# Altium integrated library Xilinx Virtex-E.IntLib: 288 symbols (part 32 of 73)
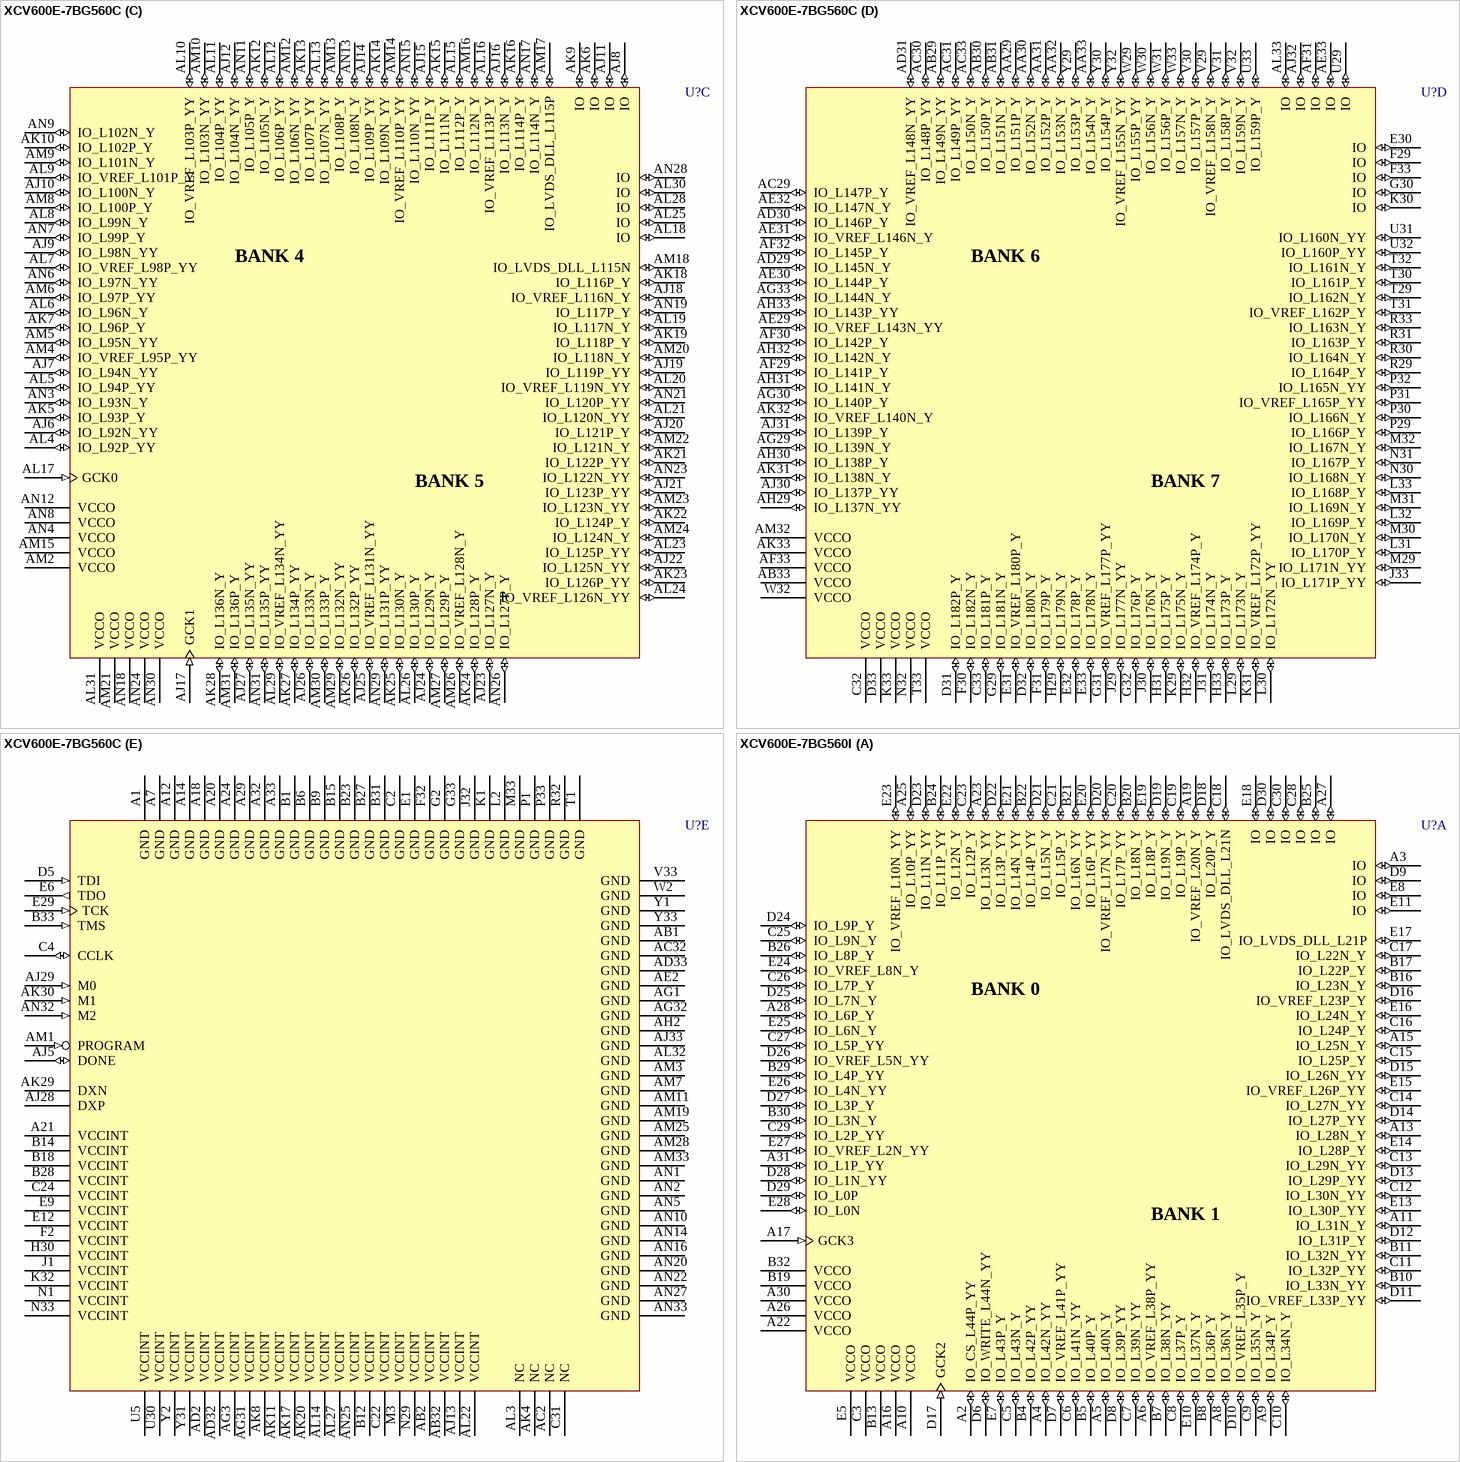
[diagram p423: symbols XCV600E-7BG560C to XCV600E-7BG560I]

## XCV600E-7BG560C
designator U?
Virtex-E 1.8V FPGA, 560-Ball BGA, Commercial Grade; PackageDocument: ver1.1, Apr-2001; Note: Solder pads are defined by the copper, i.e. non-soldermask defined (NSMD); Published: 19-Sep-2001; LatestRevisionDate: 17-Jul-2002; LatestRevisionNote: Re-released for DXP Platform.; DatasheetDocument: Mar-2003; PackageReference: BG560; Publisher: Altium Limited
footprint BG560 (560-Ball Metal Ball Grid Array (BG560))
3D model XCV600E-BG560 (560-Ball Metal Ball Grid Array (BG560))
signal-integrity model XCV600E_BG560 (Virtex-E)
part A pins: A2 IO_CS_L44P_YY (io), A3 IO (io), A4 IO_L42N_YY (io), A5 IO_L40N_Y (io), A6 IO_VREF_L38P_YY (io), A8 IO_L36N_Y (io), A9 IO_L34P_Y (io), A10 VCCO (power), A11 IO_L31N_Y (io), A13 IO_L28N_Y (io), A15 IO_L25N_Y (io), A16 VCCO (power), A17 GCK3 (in), A19 IO_VREF_L20N_Y (io), A22 VCCO (power), A23 IO_L13N_YY (io), A25 IO_L10P_YY (io), A26 VCCO (power), A27 IO (io), A28 IO_L6P_Y (io), A30 VCCO (power), A31 IO_L1P_YY (io), B4 IO_L42P_YY (io), B5 IO_L40P_Y (io), B7 IO_L38N_YY (io), B8 IO_L36P_Y (io), B10 IO_L33N_YY (io), B11 IO_L32N_YY (io), B13 VCCO (power), B16 IO_L23N_Y (io), B17 IO_L22P_Y (io), B19 VCCO (power), B20 IO_L18N_Y (io), B21 IO_L16N_YY (io), B22 IO_L14P_YY (io), B24 IO_L11P_YY (io), B25 IO (io), B26 IO_L8P_Y (io), B29 IO_L4P_YY (io), B30 IO_L3N_Y (io), B32 VCCO (power), C3 VCCO (power), C5 IO_L43N_Y (io), C6 IO_L41N_YY (io), C7 IO_L39N_YY (io), C8 IO_L37P_Y (io), C9 IO_L35N_Y (io), C10 IO_L34N_Y (io), C11 IO_L32P_YY (io), C12 IO_L30N_YY (io), C13 IO_L29N_YY (io), C14 IO_L27N_YY (io), C15 IO_L25P_Y (io), C16 IO_L24P_Y (io), C17 IO_L22N_Y (io), C18 IO_LVDS_DLL_L21N (io), C19 IO_L19P_Y (io), C20 IO_L17P_YY (io), C21 IO_L15P_Y (io), C23 IO_L12P_Y (io), C25 IO_L9N_Y (io), C26 IO_L7P_Y (io), C27 IO_L5P_YY (io), C28 IO (io), C29 IO_L2P_YY (io), C30 IO (io), D6 IO_WRITE_L44N_YY (io), D7 IO_VREF_L41P_YY (io), D8 IO_L39P_YY (io), D9 IO (io), D10 IO_VREF_L35P_Y (io), D11 IO_VREF_L33P_YY (io), D12 IO_L31P_Y (io), D13 IO_L29P_YY (io), D14 IO_L27P_YY (io), D15 IO_L26N_YY (io), D16 IO_VREF_L23P_Y (io), D17 GCK2 (in), D18 IO_L20P_Y (io), D19 IO_L19N_Y (io), D20 IO_VREF_L17N_YY (io), D21 IO_L15N_Y (io), D22 IO_L13P_YY (io), D23 IO_L11N_YY (io), D24 IO_L9P_Y (io), D25 IO_L7N_Y (io), D26 IO_VREF_L5N_YY (io), D27 IO_L3P_Y (io), D28 IO_L1N_YY (io), D29 IO_L0P (io), D30 IO (io), E5 VCCO (power), E7 IO_L43P_Y (io), E8 IO (io), E10 IO_L37N_Y (io), E11 IO (io), E13 IO_L30P_YY (io), E14 IO_L28P_Y (io), E15 IO_VREF_L26P_YY (io), E16 IO_L24N_Y (io), E17 IO_LVDS_DLL_L21P (io), E18 IO (io), E19 IO_L18P_Y (io), E20 IO_L16P_YY (io), E21 IO_L14N_YY (io), E22 IO_L12N_Y (io), E23 IO_VREF_L10N_YY (io), E24 IO_VREF_L8N_Y (io), E25 IO_L6N_Y (io), E26 IO_L4N_YY (io), E27 IO_VREF_L2N_YY (io), E28 IO_L0N (io)
part B pins: AA1 IO_L75P_Y (io), AA2 VCCO (power), AA3 IO_L76P_Y (io), AA4 IO_L76N_Y (io), AA5 IO_L77N_Y (io), AB3 IO_L77P_Y (io), AB4 IO_L78N_Y (io), AB5 IO_D5_L79N_YY (io), AC1 IO_L78P_Y (io), AC3 IO_L79P_YY (io), AC4 IO_D6_L80P_YY (io), AC5 IO_L81N_Y (io), AD1 VCCO (power), AD3 IO_VREF_L80N_YY (io), AD4 IO_L82P_Y (io), AD5 IO_L83N_Y (io), AE1 IO_L81P_Y (io), AE3 IO (io), AE4 IO_L84N_Y (io), AE5 IO_VREF_L85N_YY (io), AF1 IO_VREF_L82N_Y (io), AF2 IO_L83P_Y (io), AF3 IO (io), AF4 IO_L86P_Y (io), AF5 IO_L87N_Y (io), AG2 IO_L84P_Y (io), AG4 IO_L88P_Y (io), AG5 IO_L89N_Y (io), AH1 IO_L85P_YY (io), AH3 IO (io), AH4 IO_L90N_Y (io), AH5 IO_INIT_L91N_YY (io), AJ1 IO_L86N_Y (io), AJ2 IO_L87P_Y (io), AJ3 IO_L89P_Y (io), AJ4 IO_D7_L91P_YY (io), AK1 VCCO (power), AK2 IO_VREF_L88N_Y (io), AK3 IO (io), AL1 IO_L90P_Y (io), AL2 VCCO (power), B2 VCCO (power), B3 IO_L46N_Y (io), C1 IO_L47N_Y (io), D1 VCCO (power), D2 IO_L49P_Y (io), D3 IO (io), D4 IO_DOUT_BUSY_L45P_YY (io), E2 IO_L50N_Y (io), E3 IO_L48N_Y (io), E4 IO_DIN_D0_L45N_YY (io), F1 IO_L52N_Y (io), F3 IO (io), F4 IO_L47P_Y (io), F5 IO_L46P_Y (io), G1 IO (io), G3 IO_L51N_YY (io), G4 IO_L49N_Y (io), G5 IO_VREF_L48P_Y (io), H1 VCCO (power), H2 IO_L54N_Y (io), H3 IO_L53N_Y (io), H4 IO_VREF_L51P_YY (io), H5 IO_L50P_Y (io), J2 IO (io), J3 IO_L55P_Y (io), J4 IO_L53P_Y (io), J5 IO_L52P_Y (io), K2 IO_L57N_YY (io), K3 IO_D1_L56N_YY (io), K4 IO_L55N_Y (io), K5 IO_VREF_L54P_Y (io), L1 IO_L59P_Y (io), L3 IO_L58N_Y (io), L4 IO_D2_L57P_YY (io), L5 IO_VREF_L56P_YY (io), M1 VCCO (power), M2 IO_L60N_Y (io), M4 IO_L59N_Y (io), M5 IO_L58P_Y (io), N2 IO_L62P_Y (io), N3 IO_L61N_Y (io), N4 IO_L61P_Y (io), N5 IO_L60P_Y (io), P2 IO_L64P_Y (io), P3 IO_D3_L63N_YY (io), P4 IO_VREF_L63P_YY (io), P5 IO_L62N_Y (io), R1 IO_VREF_L66P_Y (io), R2 VCCO (power), R3 IO_L65N_Y (io), R4 IO_L65P_Y (io), R5 IO_L64N_Y (io), T2 IO_L68P_YY (io), T3 IO_L67N_Y (io), T4 IO_L66N_Y (io), T5 IO_L67P_Y (io), U1 IO_L69P_Y (io), U2 IO_L69N_Y (io), U3 IO_L68N_YY (io), U4 IO (io), V1 VCCO (power), V2 IO_L70P_Y (io), V3 IO_L71N_Y (io), V4 IO_VREF_L70N_Y (io), V5 IO_L71P_Y (io), W1 IO_L72P_Y (io), W3 IO_L72N_Y (io), W4 IO_D4_L73P_YY (io), W5 IO_VREF_L73N_YY (io), Y3 IO_L74P_Y (io), Y4 IO_L74N_Y (io), Y5 IO_L75N_Y (io)
part C pins: AJ6 IO_L92N_YY (io), AJ7 IO_L94N_YY (io), AJ8 IO (io), AJ9 IO_L98N_YY (io), AJ10 IO_L100N_Y (io), AJ11 IO (io), AJ12 IO_L104N_YY (io), AJ14 IO_L109P_YY (io), AJ15 IO_L111P_Y (io), AJ16 IO_L113N_Y (io), AJ17 GCK1 (in), AJ18 IO_VREF_L116N_Y (io), AJ19 IO_L119P_YY (io), AJ20 IO_L121P_Y (io), AJ21 IO_L123P_YY (io), AJ22 IO_L125N_YY (io), AJ23 IO_L127N_Y (io), AJ24 IO_L129N_Y (io), AJ25 IO_VREF_L131N_YY (io), AJ26 IO_L133N_Y (io), AJ27 IO_L135N_YY (io), AK5 IO_L93P_Y (io), AK6 IO (io), AK7 IO_L96P_Y (io), AK9 IO (io), AK10 IO_L102P_Y (io), AK12 IO_L105N_Y (io), AK13 IO_L107P_YY (io), AK14 IO_L109N_YY (io), AK15 IO_L111N_Y (io), AK16 IO_L114P_Y (io), AK18 IO_L116P_Y (io), AK19 IO_L118P_Y (io), AK21 IO_L122P_YY (io), AK22 IO_L124P_Y (io), AK23 IO_L126P_YY (io), AK24 IO_L128P_Y (io), AK25 IO_L130N_Y (io), AK26 IO_L132P_YY (io), AK27 IO_L134P_YY (io), AK28 IO_L136N_Y (io), AL4 IO_L92P_YY (io), AL5 IO_L94P_YY (io), AL6 IO_L96N_Y (io), AL7 IO_VREF_L98P_YY (io), AL8 IO_L99N_Y (io), AL9 IO_VREF_L101P_Y (io), AL10 IO_VREF_L103P_YY (io), AL11 IO_L104P_YY (io), AL12 IO_L106P_YY (io), AL13 IO_L107N_YY (io), AL15 IO_L112P_Y (io), AL16 IO_VREF_L113P_Y (io), AL17 GCK0 (in), AL18 IO (io), AL19 IO_L117N_Y (io), AL20 IO_VREF_L119N_YY (io), AL21 IO_L120N_YY (io), AL23 IO_L125P_YY (io), AL24 IO_VREF_L126N_YY (io), AL25 IO (io), AL26 IO_L130P_Y (io), AL28 IO (io), AL29 IO_VREF_L134N_YY (io), AL30 IO (io), AL31 VCCO (power), AM2 VCCO (power), AM4 IO_VREF_L95P_YY (io), AM5 IO_L95N_YY (io), AM6 IO_L97P_YY (io), AM8 IO_L100P_Y (io), AM9 IO_L101N_Y (io), AM10 IO_L103N_YY (io), AM12 IO_L106N_YY (io), AM13 IO_L108P_Y (io), AM14 IO_VREF_L110P_YY (io), AM15 VCCO (power), AM16 IO_L112N_Y (io), AM17 IO_LVDS_DLL_L115P (io), AM18 IO_LVDS_DLL_L115N (io), AM20 IO_L118N_Y (io), AM21 VCCO (power), AM22 IO_L121N_Y (io), AM23 IO_L123N_YY (io), AM24 IO_L124N_Y (io), AM26 IO_VREF_L128N_Y (io), AM27 IO_L129P_Y (io), AM29 IO_L132N_YY (io), AM30 IO_L133P_Y (io), AM31 IO_L136P_Y (io), AN3 IO_L93N_Y (io), AN4 VCCO (power), AN6 IO_L97N_YY (io), AN7 IO_L99P_Y (io), AN8 VCCO (power), AN9 IO_L102N_Y (io), AN11 IO_L105P_Y (io), AN12 VCCO (power), AN13 IO_L108N_Y (io), AN15 IO_L110N_YY (io), AN17 IO_L114N_Y (io), AN18 VCCO (power), AN19 IO_L117P_Y (io), AN21 IO_L120P_YY (io), AN23 IO_L122N_YY (io), AN24 VCCO (power), AN26 IO_L127P_Y (io), AN28 IO (io), AN29 IO_L131P_YY (io), AN30 VCCO (power), AN31 IO_L135P_YY (io)
part D pins: AA29 IO_L151P_Y (io), AA30 IO_L152N_Y (io), AA31 IO_L152P_Y (io), AA32 IO_L153N_Y (io), AA33 IO_L154N_Y (io), AB29 IO_L149N_YY (io), AB30 IO_L150P_Y (io), AB31 IO_L151N_Y (io), AB33 VCCO (power), AC29 IO_L147P_Y (io), AC30 IO_L148P_YY (io), AC31 IO_L149P_YY (io), AC33 IO_L150N_Y (io), AD29 IO_L145N_Y (io), AD30 IO_L146P_Y (io), AD31 IO_VREF_L148N_YY (io), AE29 IO_VREF_L143N_YY (io), AE30 IO_L144P_Y (io), AE31 IO_VREF_L146N_Y (io), AE32 IO_L147N_Y (io), AE33 IO (io), AF29 IO_L141P_Y (io), AF30 IO_L142P_Y (io), AF31 IO (io), AF32 IO_L145P_Y (io), AF33 VCCO (power), AG29 IO_L139N_Y (io), AG30 IO_L140P_Y (io), AG33 IO_L144N_Y (io), AH29 IO_L137N_YY (io), AH30 IO_L138P_Y (io), AH31 IO_L141N_Y (io), AH32 IO_L142N_Y (io), AH33 IO_L143P_YY (io), AJ30 IO_L137P_YY (io), AJ31 IO_L139P_Y (io), AJ32 IO (io), AK31 IO_L138N_Y (io), AK32 IO_VREF_L140N_Y (io), AK33 VCCO (power), AL33 IO (io), AM32 VCCO (power), C32 VCCO (power), C33 IO_L181P_Y (io), D31 IO_L182P_Y (io), D32 IO_L180N_Y (io), D33 VCCO (power), E30 IO (io), E31 IO_VREF_L180P_Y (io), E32 IO_L178P_Y (io), E33 IO_L178N_Y (io), F29 IO (io), F30 IO_L182N_Y (io), F31 IO_L179P_Y (io), F33 IO (io), G29 IO_L181N_Y (io), G30 IO (io), G31 IO_VREF_L177P_YY (io), G32 IO_L176P_Y (io), H29 IO_L179N_Y (io), H31 IO_L175P_Y (io), H32 IO_VREF_L174P_Y (io), H33 IO_L173P_Y (io), J29 IO_L177N_YY (io), J30 IO_L176N_Y (io), J31 IO_L174N_Y (io), J33 IO_L171P_YY (io), K29 IO_L175N_Y (io), K30 IO (io), K31 IO_VREF_L172P_YY (io), K33 VCCO (power), L29 IO_L173N_Y (io), L30 IO_L172N_YY (io), L31 IO_L170P_Y (io), L32 IO_L169P_Y (io), L33 IO_L168P_Y (io), M29 IO_L171N_YY (io), M30 IO_L170N_Y (io), M31 IO_L169N_Y (io), M32 IO_L167N_Y (io), N30 IO_L168N_Y (io), N31 IO_L167P_Y (io), N32 VCCO (power), P29 IO_L166P_Y (io), P30 IO_L166N_Y (io), P31 IO_VREF_L165P_YY (io), P32 IO_L165N_YY (io), R29 IO_L164P_Y (io), R30 IO_L164N_Y (io), R31 IO_L163P_Y (io), R33 IO_L163N_Y (io), T29 IO_L162N_Y (io), T30 IO_L161P_Y (io), T31 IO_VREF_L162P_Y (io), T32 IO_L161N_Y (io), T33 VCCO (power), U29 IO (io), U31 IO_L160N_YY (io), U32 IO_L160P_YY (io), U33 IO_L159P_Y (io), V29 IO_VREF_L158N_Y (io), V30 IO_L157P_Y (io), V31 IO_L158P_Y (io), V32 IO_L159N_Y (io), W29 IO_L155P_YY (io), W30 IO_L156N_Y (io), W31 IO_L156P_Y (io), W32 VCCO (power), W33 IO_L157N_Y (io), Y29 IO_L153P_Y (io), Y30 IO_L154P_Y (io), Y32 IO_VREF_L155N_YY (io)
part E pins: A1 GND (power), A7 GND (power), A12 GND (power), A14 GND (power), A18 GND (power), A20 GND (power), A21 VCCINT (power), A24 GND (power), A29 GND (power), A32 GND (power), A33 GND (power), AB1 GND (power), AB2 VCCINT (power), AB32 VCCINT (power), AC2 NC, AC32 GND (power), AD2 VCCINT (power), AD32 VCCINT (power), AD33 GND (power), AE2 GND (power), AG1 GND (power), AG3 VCCINT (power), AG31 VCCINT (power), AG32 GND (power), AH2 GND (power), AJ5 DONE (io), AJ13 VCCINT (power), AJ28 DXP, AJ29 M0 (in), AJ33 GND (power), AK4 NC, AK8 VCCINT (power), AK11 VCCINT (power), AK17 VCCINT (power), AK20 VCCINT (power), AK29 DXN, AK30 M1 (in), AL3 NC, AL14 VCCINT (power), AL22 VCCINT (power), AL27 VCCINT (power), AL32 GND (power), AM1 PROGRAM (in), AM3 GND (power), AM7 GND (power), AM11 GND (power), AM19 GND (power), AM25 GND (power), AM28 GND (power), AM33 GND (power), AN1 GND (power), AN2 GND (power), AN5 GND (power), AN10 GND (power), AN14 GND (power), AN16 GND (power), AN20 GND (power), AN22 GND (power), AN25 VCCINT (power), AN27 GND (power), AN32 M2 (in), AN33 GND (power), B1 GND (power), B6 GND (power), B9 GND (power), B12 VCCINT (power), B14 VCCINT (power), B15 GND (power), B18 VCCINT (power), B23 GND (power), B27 GND (power), B28 VCCINT (power), B31 GND (power), B33 TMS (in), C2 GND (power), C4 CCLK (io), C22 VCCINT (power), C24 VCCINT (power), C31 NC, D5 TDI (in), E1 GND (power), E6 TDO (out), E9 VCCINT (power), E12 VCCINT (power), E29 TCK (in), F2 VCCINT (power), F32 GND (power), G2 GND (power), G33 GND (power), H30 VCCINT (power), J1 VCCINT (power), J32 GND (power), K1 GND (power), K32 VCCINT (power), L2 GND (power), M3 VCCINT (power), M33 GND (power), N1 VCCINT (power), N29 VCCINT (power), N33 VCCINT (power), P1 GND (power), P33 GND (power), R32 GND (power), T1 GND (power), U5 VCCINT (power), U30 VCCINT (power), V33 GND (power), W2 GND (power), Y1 GND (power), Y2 VCCINT (power), Y31 VCCINT (power), Y33 GND (power)
part A text: BANK 0; BANK 1
part B text: BANK 2; BANK 3
part C text: BANK 4; BANK 5
part D text: BANK 6; BANK 7

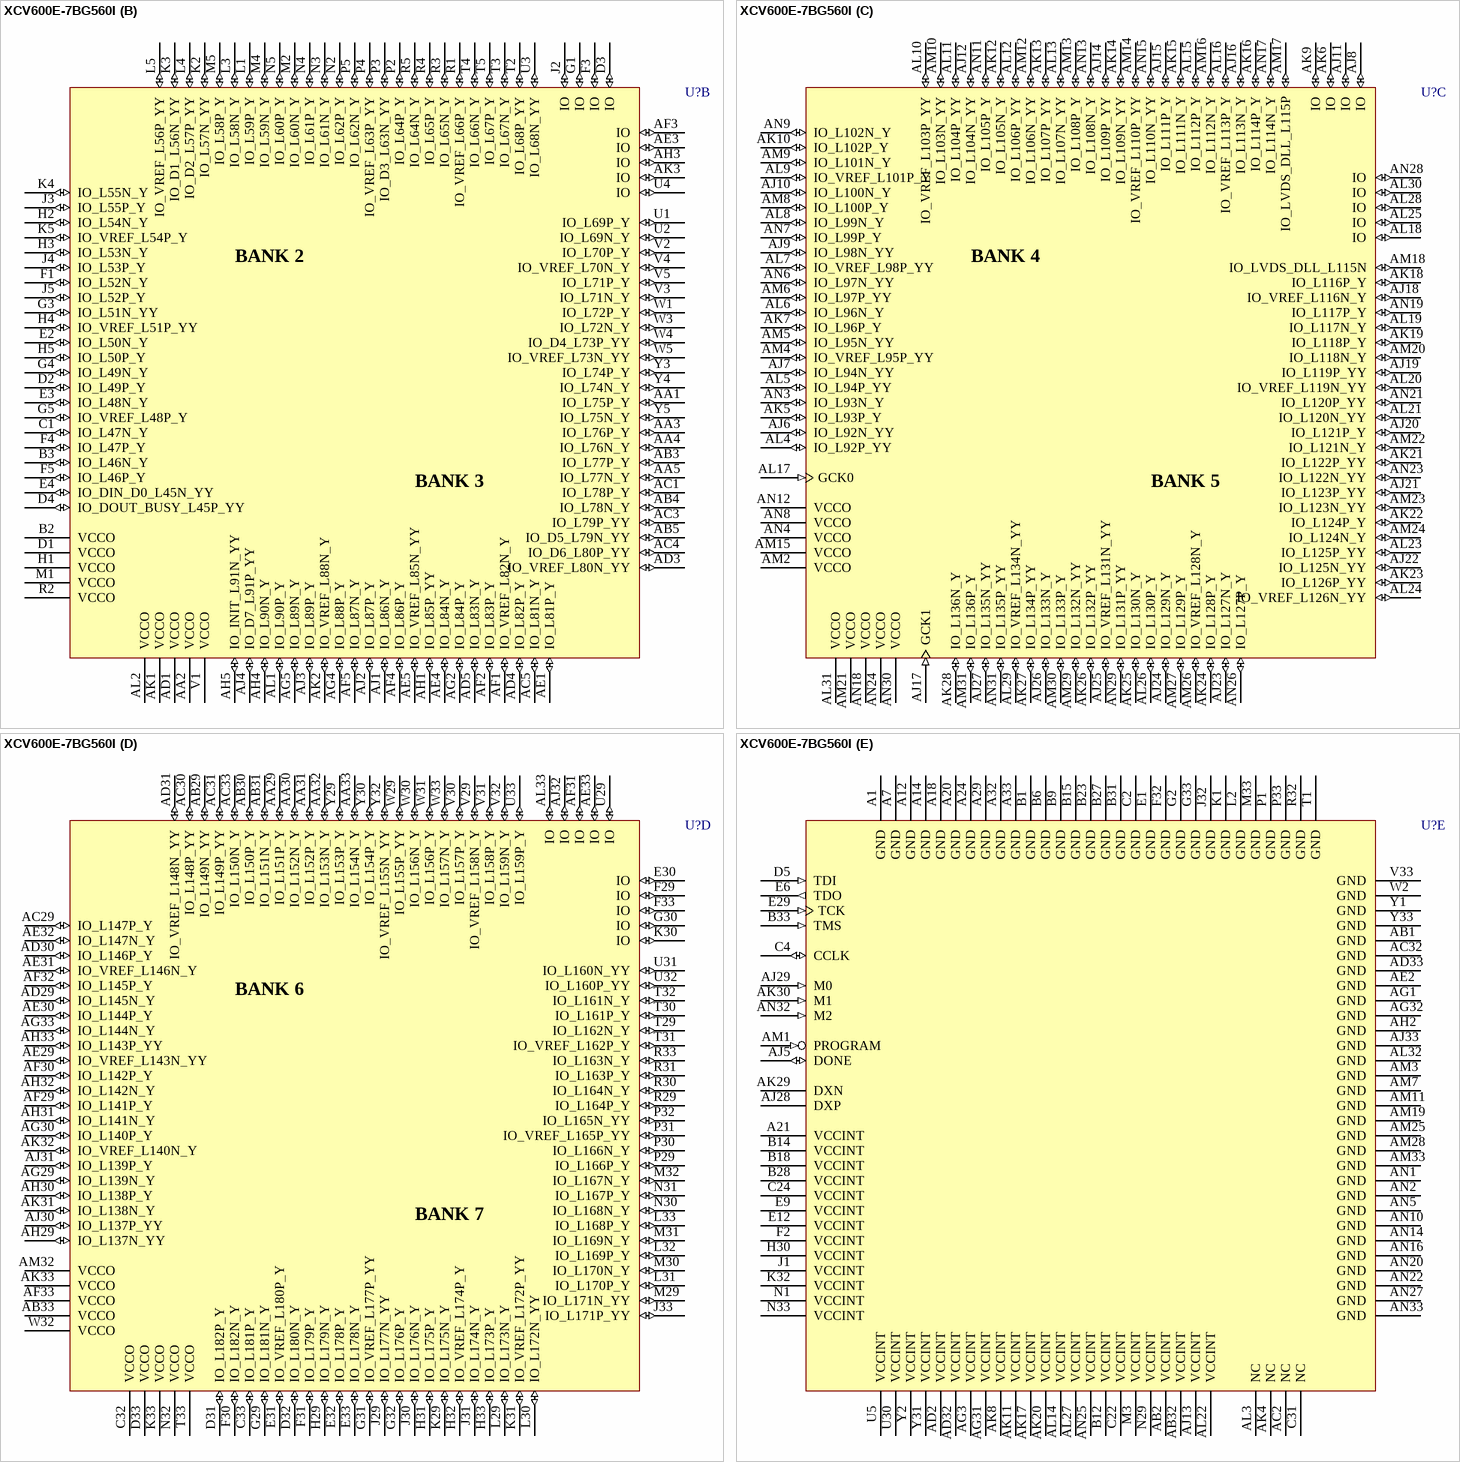
[diagram p226: symbol XCV600E-7BG560I]

## XCV600E-7BG560I
designator U?
Virtex-E 1.8V FPGA, 560-Ball BGA, Industrial Grade; PackageDocument: ver1.1, Apr-2001; Note: Solder pads are defined by the copper, i.e. non-soldermask defined (NSMD); Published: 19-Sep-2001; LatestRevisionDate: 17-Jul-2002; LatestRevisionNote: Re-released for DXP Platform.; DatasheetDocument: Mar-2003; PackageReference: BG560; Publisher: Altium Limited
footprint BG560 (560-Ball Metal Ball Grid Array (BG560))
3D model XCV600E-BG560 (560-Ball Metal Ball Grid Array (BG560))
signal-integrity model XCV600E_BG560 (Virtex-E)
part A pins: A2 IO_CS_L44P_YY (io), A3 IO (io), A4 IO_L42N_YY (io), A5 IO_L40N_Y (io), A6 IO_VREF_L38P_YY (io), A8 IO_L36N_Y (io), A9 IO_L34P_Y (io), A10 VCCO (power), A11 IO_L31N_Y (io), A13 IO_L28N_Y (io), A15 IO_L25N_Y (io), A16 VCCO (power), A17 GCK3 (in), A19 IO_VREF_L20N_Y (io), A22 VCCO (power), A23 IO_L13N_YY (io), A25 IO_L10P_YY (io), A26 VCCO (power), A27 IO (io), A28 IO_L6P_Y (io), A30 VCCO (power), A31 IO_L1P_YY (io), B4 IO_L42P_YY (io), B5 IO_L40P_Y (io), B7 IO_L38N_YY (io), B8 IO_L36P_Y (io), B10 IO_L33N_YY (io), B11 IO_L32N_YY (io), B13 VCCO (power), B16 IO_L23N_Y (io), B17 IO_L22P_Y (io), B19 VCCO (power), B20 IO_L18N_Y (io), B21 IO_L16N_YY (io), B22 IO_L14P_YY (io), B24 IO_L11P_YY (io), B25 IO (io), B26 IO_L8P_Y (io), B29 IO_L4P_YY (io), B30 IO_L3N_Y (io), B32 VCCO (power), C3 VCCO (power), C5 IO_L43N_Y (io), C6 IO_L41N_YY (io), C7 IO_L39N_YY (io), C8 IO_L37P_Y (io), C9 IO_L35N_Y (io), C10 IO_L34N_Y (io), C11 IO_L32P_YY (io), C12 IO_L30N_YY (io), C13 IO_L29N_YY (io), C14 IO_L27N_YY (io), C15 IO_L25P_Y (io), C16 IO_L24P_Y (io), C17 IO_L22N_Y (io), C18 IO_LVDS_DLL_L21N (io), C19 IO_L19P_Y (io), C20 IO_L17P_YY (io), C21 IO_L15P_Y (io), C23 IO_L12P_Y (io), C25 IO_L9N_Y (io), C26 IO_L7P_Y (io), C27 IO_L5P_YY (io), C28 IO (io), C29 IO_L2P_YY (io), C30 IO (io), D6 IO_WRITE_L44N_YY (io), D7 IO_VREF_L41P_YY (io), D8 IO_L39P_YY (io), D9 IO (io), D10 IO_VREF_L35P_Y (io), D11 IO_VREF_L33P_YY (io), D12 IO_L31P_Y (io), D13 IO_L29P_YY (io), D14 IO_L27P_YY (io), D15 IO_L26N_YY (io), D16 IO_VREF_L23P_Y (io), D17 GCK2 (in), D18 IO_L20P_Y (io), D19 IO_L19N_Y (io), D20 IO_VREF_L17N_YY (io), D21 IO_L15N_Y (io), D22 IO_L13P_YY (io), D23 IO_L11N_YY (io), D24 IO_L9P_Y (io), D25 IO_L7N_Y (io), D26 IO_VREF_L5N_YY (io), D27 IO_L3P_Y (io), D28 IO_L1N_YY (io), D29 IO_L0P (io), D30 IO (io), E5 VCCO (power), E7 IO_L43P_Y (io), E8 IO (io), E10 IO_L37N_Y (io), E11 IO (io), E13 IO_L30P_YY (io), E14 IO_L28P_Y (io), E15 IO_VREF_L26P_YY (io), E16 IO_L24N_Y (io), E17 IO_LVDS_DLL_L21P (io), E18 IO (io), E19 IO_L18P_Y (io), E20 IO_L16P_YY (io), E21 IO_L14N_YY (io), E22 IO_L12N_Y (io), E23 IO_VREF_L10N_YY (io), E24 IO_VREF_L8N_Y (io), E25 IO_L6N_Y (io), E26 IO_L4N_YY (io), E27 IO_VREF_L2N_YY (io), E28 IO_L0N (io)
part B pins: AA1 IO_L75P_Y (io), AA2 VCCO (power), AA3 IO_L76P_Y (io), AA4 IO_L76N_Y (io), AA5 IO_L77N_Y (io), AB3 IO_L77P_Y (io), AB4 IO_L78N_Y (io), AB5 IO_D5_L79N_YY (io), AC1 IO_L78P_Y (io), AC3 IO_L79P_YY (io), AC4 IO_D6_L80P_YY (io), AC5 IO_L81N_Y (io), AD1 VCCO (power), AD3 IO_VREF_L80N_YY (io), AD4 IO_L82P_Y (io), AD5 IO_L83N_Y (io), AE1 IO_L81P_Y (io), AE3 IO (io), AE4 IO_L84N_Y (io), AE5 IO_VREF_L85N_YY (io), AF1 IO_VREF_L82N_Y (io), AF2 IO_L83P_Y (io), AF3 IO (io), AF4 IO_L86P_Y (io), AF5 IO_L87N_Y (io), AG2 IO_L84P_Y (io), AG4 IO_L88P_Y (io), AG5 IO_L89N_Y (io), AH1 IO_L85P_YY (io), AH3 IO (io), AH4 IO_L90N_Y (io), AH5 IO_INIT_L91N_YY (io), AJ1 IO_L86N_Y (io), AJ2 IO_L87P_Y (io), AJ3 IO_L89P_Y (io), AJ4 IO_D7_L91P_YY (io), AK1 VCCO (power), AK2 IO_VREF_L88N_Y (io), AK3 IO (io), AL1 IO_L90P_Y (io), AL2 VCCO (power), B2 VCCO (power), B3 IO_L46N_Y (io), C1 IO_L47N_Y (io), D1 VCCO (power), D2 IO_L49P_Y (io), D3 IO (io), D4 IO_DOUT_BUSY_L45P_YY (io), E2 IO_L50N_Y (io), E3 IO_L48N_Y (io), E4 IO_DIN_D0_L45N_YY (io), F1 IO_L52N_Y (io), F3 IO (io), F4 IO_L47P_Y (io), F5 IO_L46P_Y (io), G1 IO (io), G3 IO_L51N_YY (io), G4 IO_L49N_Y (io), G5 IO_VREF_L48P_Y (io), H1 VCCO (power), H2 IO_L54N_Y (io), H3 IO_L53N_Y (io), H4 IO_VREF_L51P_YY (io), H5 IO_L50P_Y (io), J2 IO (io), J3 IO_L55P_Y (io), J4 IO_L53P_Y (io), J5 IO_L52P_Y (io), K2 IO_L57N_YY (io), K3 IO_D1_L56N_YY (io), K4 IO_L55N_Y (io), K5 IO_VREF_L54P_Y (io), L1 IO_L59P_Y (io), L3 IO_L58N_Y (io), L4 IO_D2_L57P_YY (io), L5 IO_VREF_L56P_YY (io), M1 VCCO (power), M2 IO_L60N_Y (io), M4 IO_L59N_Y (io), M5 IO_L58P_Y (io), N2 IO_L62P_Y (io), N3 IO_L61N_Y (io), N4 IO_L61P_Y (io), N5 IO_L60P_Y (io), P2 IO_L64P_Y (io), P3 IO_D3_L63N_YY (io), P4 IO_VREF_L63P_YY (io), P5 IO_L62N_Y (io), R1 IO_VREF_L66P_Y (io), R2 VCCO (power), R3 IO_L65N_Y (io), R4 IO_L65P_Y (io), R5 IO_L64N_Y (io), T2 IO_L68P_YY (io), T3 IO_L67N_Y (io), T4 IO_L66N_Y (io), T5 IO_L67P_Y (io), U1 IO_L69P_Y (io), U2 IO_L69N_Y (io), U3 IO_L68N_YY (io), U4 IO (io), V1 VCCO (power), V2 IO_L70P_Y (io), V3 IO_L71N_Y (io), V4 IO_VREF_L70N_Y (io), V5 IO_L71P_Y (io), W1 IO_L72P_Y (io), W3 IO_L72N_Y (io), W4 IO_D4_L73P_YY (io), W5 IO_VREF_L73N_YY (io), Y3 IO_L74P_Y (io), Y4 IO_L74N_Y (io), Y5 IO_L75N_Y (io)
part C pins: AJ6 IO_L92N_YY (io), AJ7 IO_L94N_YY (io), AJ8 IO (io), AJ9 IO_L98N_YY (io), AJ10 IO_L100N_Y (io), AJ11 IO (io), AJ12 IO_L104N_YY (io), AJ14 IO_L109P_YY (io), AJ15 IO_L111P_Y (io), AJ16 IO_L113N_Y (io), AJ17 GCK1 (in), AJ18 IO_VREF_L116N_Y (io), AJ19 IO_L119P_YY (io), AJ20 IO_L121P_Y (io), AJ21 IO_L123P_YY (io), AJ22 IO_L125N_YY (io), AJ23 IO_L127N_Y (io), AJ24 IO_L129N_Y (io), AJ25 IO_VREF_L131N_YY (io), AJ26 IO_L133N_Y (io), AJ27 IO_L135N_YY (io), AK5 IO_L93P_Y (io), AK6 IO (io), AK7 IO_L96P_Y (io), AK9 IO (io), AK10 IO_L102P_Y (io), AK12 IO_L105N_Y (io), AK13 IO_L107P_YY (io), AK14 IO_L109N_YY (io), AK15 IO_L111N_Y (io), AK16 IO_L114P_Y (io), AK18 IO_L116P_Y (io), AK19 IO_L118P_Y (io), AK21 IO_L122P_YY (io), AK22 IO_L124P_Y (io), AK23 IO_L126P_YY (io), AK24 IO_L128P_Y (io), AK25 IO_L130N_Y (io), AK26 IO_L132P_YY (io), AK27 IO_L134P_YY (io), AK28 IO_L136N_Y (io), AL4 IO_L92P_YY (io), AL5 IO_L94P_YY (io), AL6 IO_L96N_Y (io), AL7 IO_VREF_L98P_YY (io), AL8 IO_L99N_Y (io), AL9 IO_VREF_L101P_Y (io), AL10 IO_VREF_L103P_YY (io), AL11 IO_L104P_YY (io), AL12 IO_L106P_YY (io), AL13 IO_L107N_YY (io), AL15 IO_L112P_Y (io), AL16 IO_VREF_L113P_Y (io), AL17 GCK0 (in), AL18 IO (io), AL19 IO_L117N_Y (io), AL20 IO_VREF_L119N_YY (io), AL21 IO_L120N_YY (io), AL23 IO_L125P_YY (io), AL24 IO_VREF_L126N_YY (io), AL25 IO (io), AL26 IO_L130P_Y (io), AL28 IO (io), AL29 IO_VREF_L134N_YY (io), AL30 IO (io), AL31 VCCO (power), AM2 VCCO (power), AM4 IO_VREF_L95P_YY (io), AM5 IO_L95N_YY (io), AM6 IO_L97P_YY (io), AM8 IO_L100P_Y (io), AM9 IO_L101N_Y (io), AM10 IO_L103N_YY (io), AM12 IO_L106N_YY (io), AM13 IO_L108P_Y (io), AM14 IO_VREF_L110P_YY (io), AM15 VCCO (power), AM16 IO_L112N_Y (io), AM17 IO_LVDS_DLL_L115P (io), AM18 IO_LVDS_DLL_L115N (io), AM20 IO_L118N_Y (io), AM21 VCCO (power), AM22 IO_L121N_Y (io), AM23 IO_L123N_YY (io), AM24 IO_L124N_Y (io), AM26 IO_VREF_L128N_Y (io), AM27 IO_L129P_Y (io), AM29 IO_L132N_YY (io), AM30 IO_L133P_Y (io), AM31 IO_L136P_Y (io), AN3 IO_L93N_Y (io), AN4 VCCO (power), AN6 IO_L97N_YY (io), AN7 IO_L99P_Y (io), AN8 VCCO (power), AN9 IO_L102N_Y (io), AN11 IO_L105P_Y (io), AN12 VCCO (power), AN13 IO_L108N_Y (io), AN15 IO_L110N_YY (io), AN17 IO_L114N_Y (io), AN18 VCCO (power), AN19 IO_L117P_Y (io), AN21 IO_L120P_YY (io), AN23 IO_L122N_YY (io), AN24 VCCO (power), AN26 IO_L127P_Y (io), AN28 IO (io), AN29 IO_L131P_YY (io), AN30 VCCO (power), AN31 IO_L135P_YY (io)
part D pins: AA29 IO_L151P_Y (io), AA30 IO_L152N_Y (io), AA31 IO_L152P_Y (io), AA32 IO_L153N_Y (io), AA33 IO_L154N_Y (io), AB29 IO_L149N_YY (io), AB30 IO_L150P_Y (io), AB31 IO_L151N_Y (io), AB33 VCCO (power), AC29 IO_L147P_Y (io), AC30 IO_L148P_YY (io), AC31 IO_L149P_YY (io), AC33 IO_L150N_Y (io), AD29 IO_L145N_Y (io), AD30 IO_L146P_Y (io), AD31 IO_VREF_L148N_YY (io), AE29 IO_VREF_L143N_YY (io), AE30 IO_L144P_Y (io), AE31 IO_VREF_L146N_Y (io), AE32 IO_L147N_Y (io), AE33 IO (io), AF29 IO_L141P_Y (io), AF30 IO_L142P_Y (io), AF31 IO (io), AF32 IO_L145P_Y (io), AF33 VCCO (power), AG29 IO_L139N_Y (io), AG30 IO_L140P_Y (io), AG33 IO_L144N_Y (io), AH29 IO_L137N_YY (io), AH30 IO_L138P_Y (io), AH31 IO_L141N_Y (io), AH32 IO_L142N_Y (io), AH33 IO_L143P_YY (io), AJ30 IO_L137P_YY (io), AJ31 IO_L139P_Y (io), AJ32 IO (io), AK31 IO_L138N_Y (io), AK32 IO_VREF_L140N_Y (io), AK33 VCCO (power), AL33 IO (io), AM32 VCCO (power), C32 VCCO (power), C33 IO_L181P_Y (io), D31 IO_L182P_Y (io), D32 IO_L180N_Y (io), D33 VCCO (power), E30 IO (io), E31 IO_VREF_L180P_Y (io), E32 IO_L178P_Y (io), E33 IO_L178N_Y (io), F29 IO (io), F30 IO_L182N_Y (io), F31 IO_L179P_Y (io), F33 IO (io), G29 IO_L181N_Y (io), G30 IO (io), G31 IO_VREF_L177P_YY (io), G32 IO_L176P_Y (io), H29 IO_L179N_Y (io), H31 IO_L175P_Y (io), H32 IO_VREF_L174P_Y (io), H33 IO_L173P_Y (io), J29 IO_L177N_YY (io), J30 IO_L176N_Y (io), J31 IO_L174N_Y (io), J33 IO_L171P_YY (io), K29 IO_L175N_Y (io), K30 IO (io), K31 IO_VREF_L172P_YY (io), K33 VCCO (power), L29 IO_L173N_Y (io), L30 IO_L172N_YY (io), L31 IO_L170P_Y (io), L32 IO_L169P_Y (io), L33 IO_L168P_Y (io), M29 IO_L171N_YY (io), M30 IO_L170N_Y (io), M31 IO_L169N_Y (io), M32 IO_L167N_Y (io), N30 IO_L168N_Y (io), N31 IO_L167P_Y (io), N32 VCCO (power), P29 IO_L166P_Y (io), P30 IO_L166N_Y (io), P31 IO_VREF_L165P_YY (io), P32 IO_L165N_YY (io), R29 IO_L164P_Y (io), R30 IO_L164N_Y (io), R31 IO_L163P_Y (io), R33 IO_L163N_Y (io), T29 IO_L162N_Y (io), T30 IO_L161P_Y (io), T31 IO_VREF_L162P_Y (io), T32 IO_L161N_Y (io), T33 VCCO (power), U29 IO (io), U31 IO_L160N_YY (io), U32 IO_L160P_YY (io), U33 IO_L159P_Y (io), V29 IO_VREF_L158N_Y (io), V30 IO_L157P_Y (io), V31 IO_L158P_Y (io), V32 IO_L159N_Y (io), W29 IO_L155P_YY (io), W30 IO_L156N_Y (io), W31 IO_L156P_Y (io), W32 VCCO (power), W33 IO_L157N_Y (io), Y29 IO_L153P_Y (io), Y30 IO_L154P_Y (io), Y32 IO_VREF_L155N_YY (io)
part E pins: A1 GND (power), A7 GND (power), A12 GND (power), A14 GND (power), A18 GND (power), A20 GND (power), A21 VCCINT (power), A24 GND (power), A29 GND (power), A32 GND (power), A33 GND (power), AB1 GND (power), AB2 VCCINT (power), AB32 VCCINT (power), AC2 NC, AC32 GND (power), AD2 VCCINT (power), AD32 VCCINT (power), AD33 GND (power), AE2 GND (power), AG1 GND (power), AG3 VCCINT (power), AG31 VCCINT (power), AG32 GND (power), AH2 GND (power), AJ5 DONE (io), AJ13 VCCINT (power), AJ28 DXP, AJ29 M0 (in), AJ33 GND (power), AK4 NC, AK8 VCCINT (power), AK11 VCCINT (power), AK17 VCCINT (power), AK20 VCCINT (power), AK29 DXN, AK30 M1 (in), AL3 NC, AL14 VCCINT (power), AL22 VCCINT (power), AL27 VCCINT (power), AL32 GND (power), AM1 PROGRAM (in), AM3 GND (power), AM7 GND (power), AM11 GND (power), AM19 GND (power), AM25 GND (power), AM28 GND (power), AM33 GND (power), AN1 GND (power), AN2 GND (power), AN5 GND (power), AN10 GND (power), AN14 GND (power), AN16 GND (power), AN20 GND (power), AN22 GND (power), AN25 VCCINT (power), AN27 GND (power), AN32 M2 (in), AN33 GND (power), B1 GND (power), B6 GND (power), B9 GND (power), B12 VCCINT (power), B14 VCCINT (power), B15 GND (power), B18 VCCINT (power), B23 GND (power), B27 GND (power), B28 VCCINT (power), B31 GND (power), B33 TMS (in), C2 GND (power), C4 CCLK (io), C22 VCCINT (power), C24 VCCINT (power), C31 NC, D5 TDI (in), E1 GND (power), E6 TDO (out), E9 VCCINT (power), E12 VCCINT (power), E29 TCK (in), F2 VCCINT (power), F32 GND (power), G2 GND (power), G33 GND (power), H30 VCCINT (power), J1 VCCINT (power), J32 GND (power), K1 GND (power), K32 VCCINT (power), L2 GND (power), M3 VCCINT (power), M33 GND (power), N1 VCCINT (power), N29 VCCINT (power), N33 VCCINT (power), P1 GND (power), P33 GND (power), R32 GND (power), T1 GND (power), U5 VCCINT (power), U30 VCCINT (power), V33 GND (power), W2 GND (power), Y1 GND (power), Y2 VCCINT (power), Y31 VCCINT (power), Y33 GND (power)
part A text: BANK 0; BANK 1
part B text: BANK 2; BANK 3
part C text: BANK 4; BANK 5
part D text: BANK 6; BANK 7

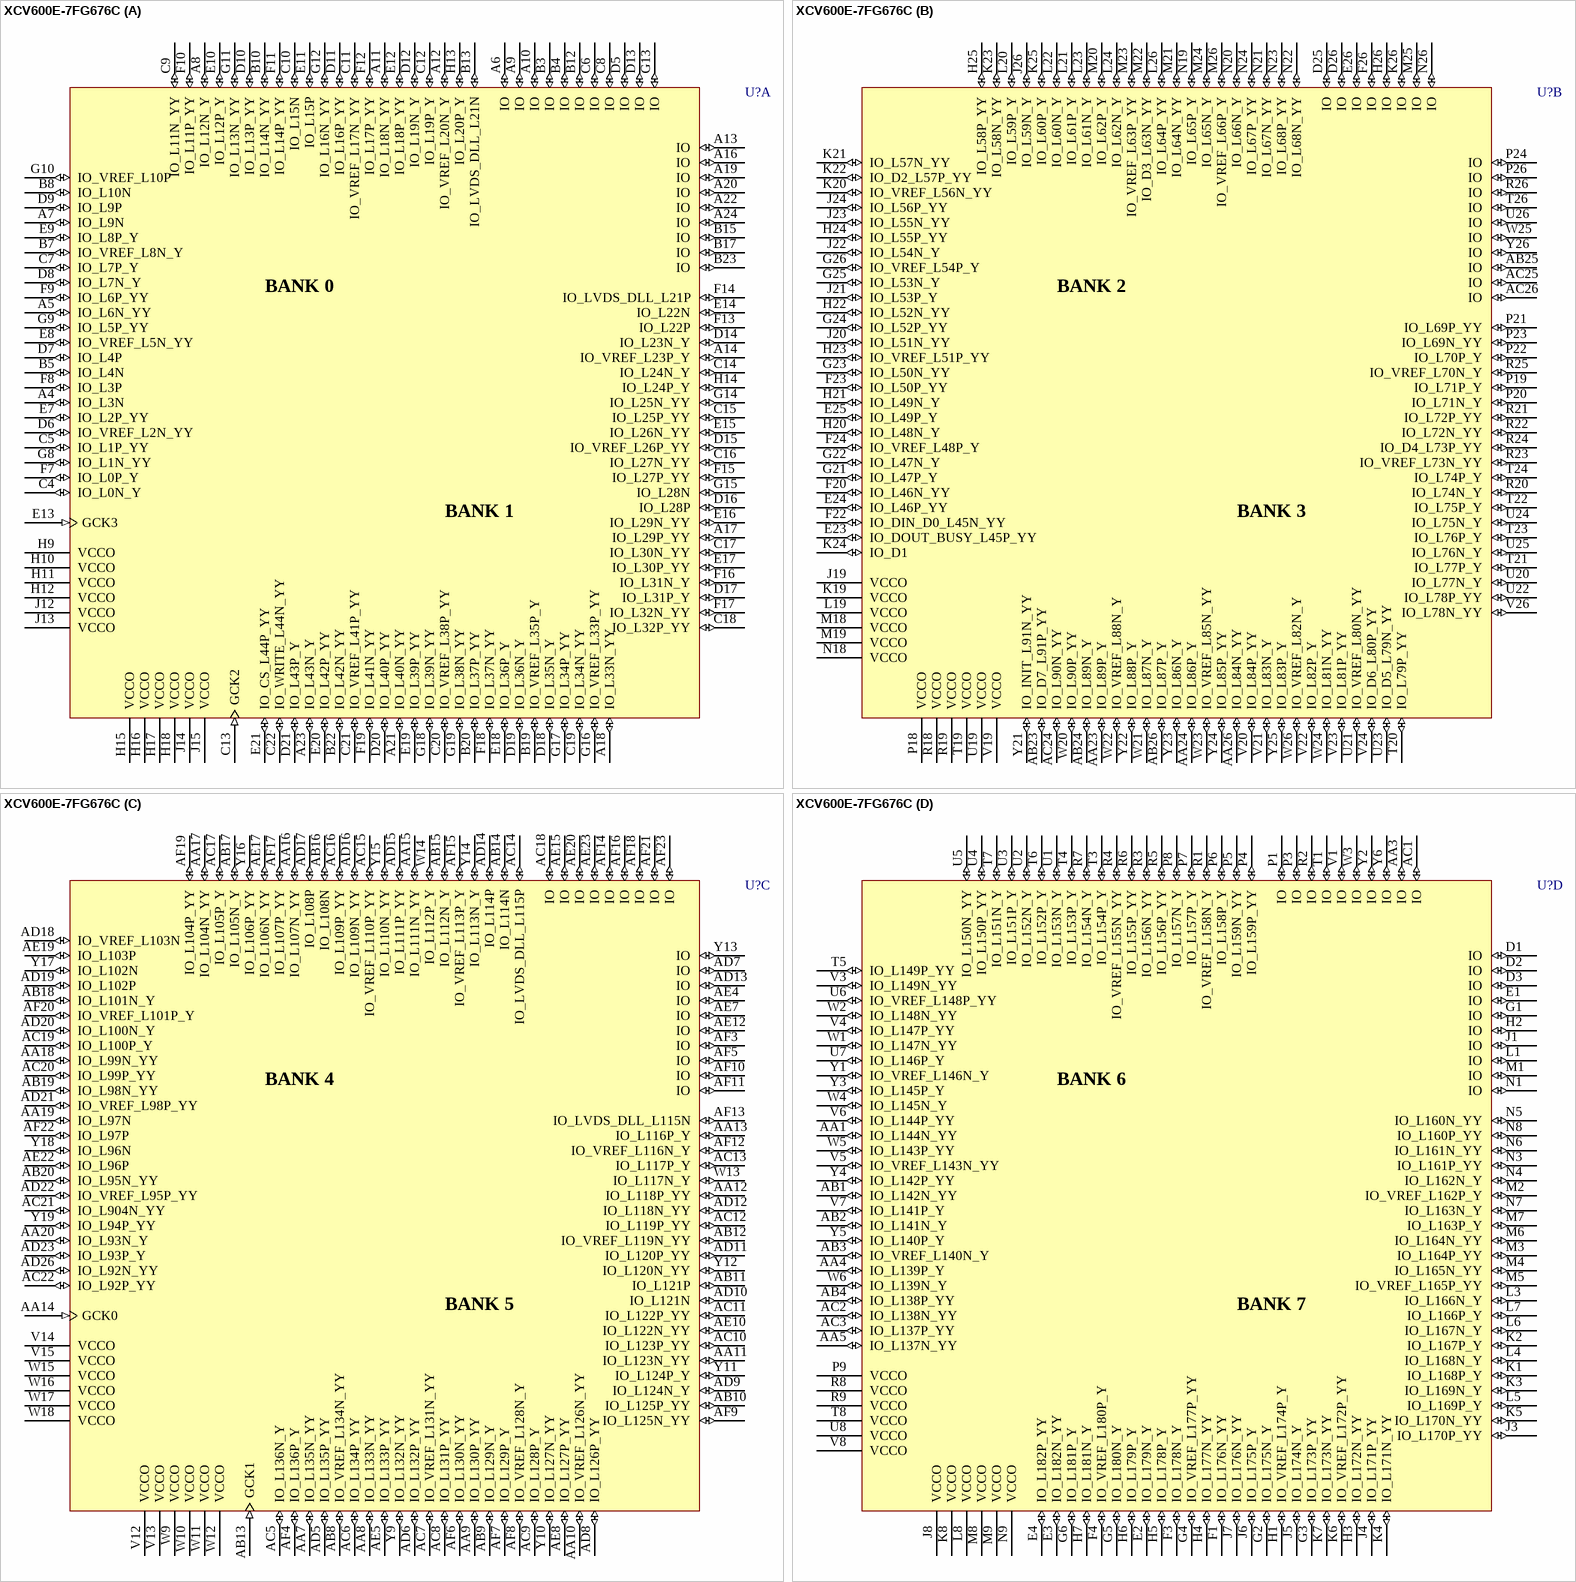
[diagram p227: symbol XCV600E-7FG676C]

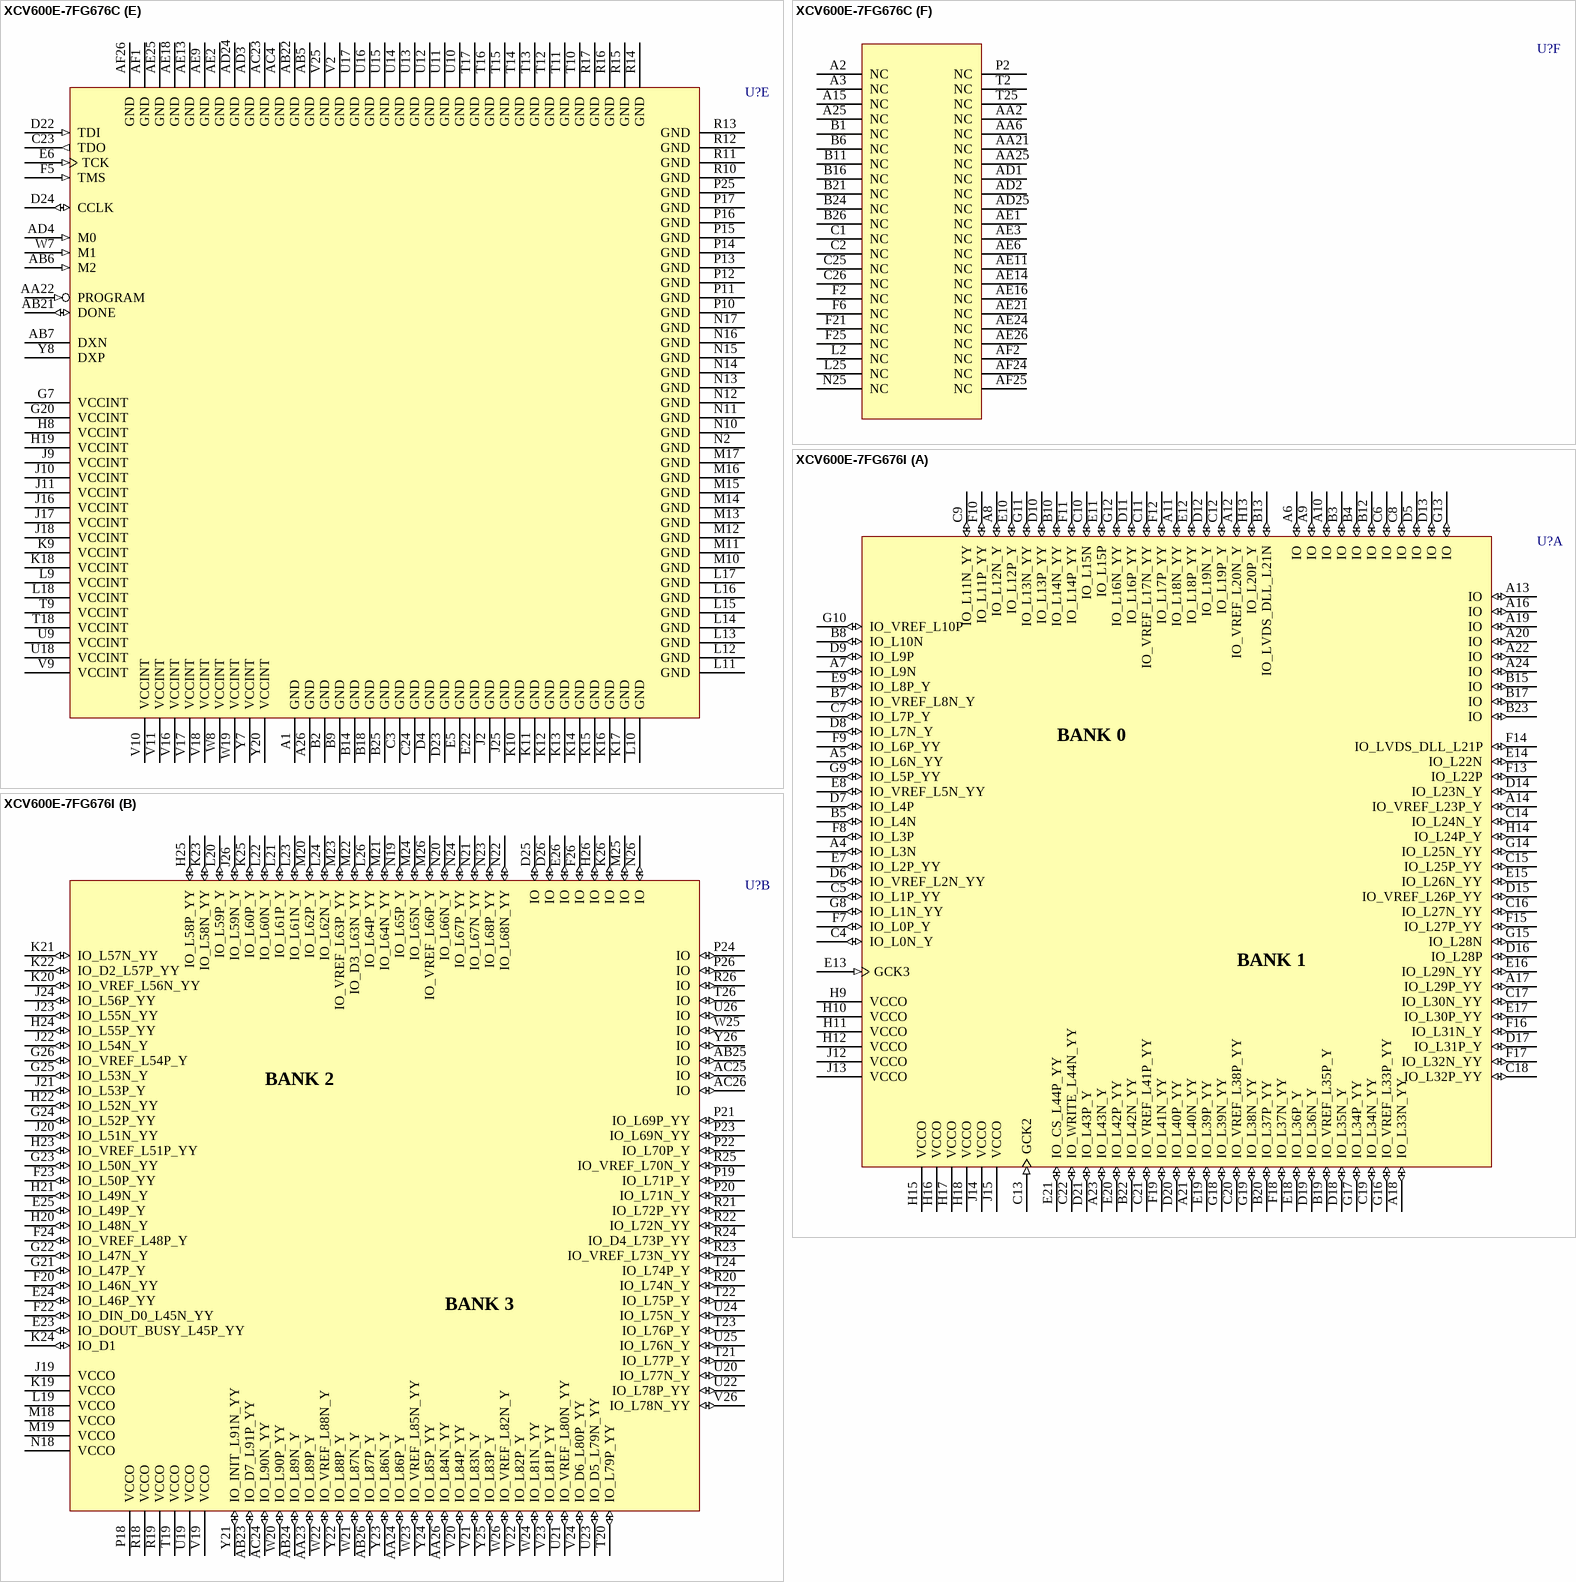
[diagram p228: symbols XCV600E-7FG676C to XCV600E-7FG676I]

## XCV600E-7FG676C
designator U?
Virtex-E 1.8V FPGA, 676-Ball FBGA, Commercial Grade; PackageDocument: ver1.1, Apr-2001; Note: Solder pads are defined by the copper, i.e. non-soldermask defined (NSMD); Published: 19-Sep-2001; LatestRevisionDate: 17-Jul-2002; LatestRevisionNote: Re-released for DXP Platform.; DatasheetDocument: Mar-2003; PackageReference: FG676; Publisher: Altium Limited; Code_JEDEC: MS-034-AAL-1; Code_IPC: PBGA 27X27 FE676
footprint FG676 (676-Ball Fine Pitch Ball Grid Array (FG676))
3D model XCV600E-FG676 (676-Ball Fine Pitch Ball Grid Array (FG676))
signal-integrity model XCV600E_FG676 (Virtex-E)
part A pins: A4 IO_L3N (io), A5 IO_L6N_YY (io), A6 IO (io), A7 IO_L9N (io), A8 IO_L12N_Y (io), A9 IO (io), A10 IO (io), A11 IO_L18N_YY (io), A12 IO_VREF_L20N_Y (io), A13 IO (io), A14 IO_VREF_L23P_Y (io), A16 IO (io), A17 IO_L29P_YY (io), A18 IO_L33N_YY (io), A19 IO (io), A20 IO (io), A21 IO_L40N_YY (io), A22 IO (io), A23 IO_L43N_Y (io), A24 IO (io), B3 IO (io), B4 IO (io), B5 IO_L4N (io), B7 IO_VREF_L8N_Y (io), B8 IO_L10N (io), B10 IO_L14N_YY (io), B12 IO (io), B13 IO_LVDS_DLL_L21N (io), B15 IO (io), B17 IO (io), B19 IO_VREF_L35P_Y (io), B20 IO_L37P_YY (io), B22 IO_L42N_YY (io), B23 IO (io), C4 IO_L0N_Y (io), C5 IO_L1P_YY (io), C6 IO (io), C7 IO_L7P_Y (io), C8 IO (io), C9 IO_L11N_YY (io), C10 IO_L15N (io), C11 IO_VREF_L17N_YY (io), C12 IO_L19P_Y (io), C13 GCK2 (in), C14 IO_L24N_Y (io), C15 IO_L25P_YY (io), C16 IO_L27N_YY (io), C17 IO_L30N_YY (io), C18 IO_L32P_YY (io), C19 IO_L34N_YY (io), C20 IO_VREF_L38P_YY (io), C21 IO_VREF_L41P_YY (io), C22 IO_WRITE_L44N_YY (io), D5 IO (io), D6 IO_VREF_L2N_YY (io), D7 IO_L4P (io), D8 IO_L7N_Y (io), D9 IO_L9P (io), D10 IO_L13P_YY (io), D11 IO_L16P_YY (io), D12 IO_L19N_Y (io), D13 IO (io), D14 IO_L23N_Y (io), D15 IO_VREF_L26P_YY (io), D16 IO_L28P (io), D17 IO_L31P_Y (io), D18 IO_L35N_Y (io), D19 IO_L36N_Y (io), D20 IO_L40P_YY (io), D21 IO_L43P_Y (io), E7 IO_L2P_YY (io), E8 IO_VREF_L5N_YY (io), E9 IO_L8P_Y (io), E10 IO_L12P_Y (io), E11 IO_L15P (io), E12 IO_L18P_YY (io), E13 GCK3 (in), E14 IO_L22N (io), E15 IO_L26N_YY (io), E16 IO_L29N_YY (io), E17 IO_L30P_YY (io), E18 IO_L36P_Y (io), E19 IO_L39P_YY (io), E20 IO_L42P_YY (io), E21 IO_CS_L44P_YY (io), F7 IO_L0P_Y (io), F8 IO_L3P (io), F9 IO_L6P_YY (io), F10 IO_L11P_YY (io), F11 IO_L14P_YY (io), F12 IO_L17P_YY (io), F13 IO_L22P (io), F14 IO_LVDS_DLL_L21P (io), F15 IO_L27P_YY (io), F16 IO_L31N_Y (io), F17 IO_L32N_YY (io), F18 IO_L37N_YY (io), F19 IO_L41N_YY (io), G8 IO_L1N_YY (io), G9 IO_L5P_YY (io), G10 IO_VREF_L10P (io), G11 IO_L13N_YY (io), G12 IO_L16N_YY (io), G13 IO (io), G14 IO_L25N_YY (io), G15 IO_L28N (io), G16 IO_VREF_L33P_YY (io), G17 IO_L34P_YY (io), G18 IO_L39N_YY (io), G19 IO_L38N_YY (io), H9 VCCO (power), H10 VCCO (power), H11 VCCO (power), H12 VCCO (power), H13 IO_L20P_Y (io), H14 IO_L24P_Y (io), H15 VCCO (power), H16 VCCO (power), H17 VCCO (power), H18 VCCO (power), J12 VCCO (power), J13 VCCO (power), J14 VCCO (power), J15 VCCO (power)
part B pins: AA23 IO_L89P_Y (io), AA24 IO_L86P_Y (io), AA26 IO_L84N_YY (io), AB23 IO_D7_L91P_YY (io), AB24 IO_L89N_Y (io), AB25 IO (io), AB26 IO_L87P_Y (io), AC24 IO_L90N_YY (io), AC25 IO (io), AC26 IO (io), D25 IO (io), D26 IO (io), E23 IO_DOUT_BUSY_L45P_YY (io), E24 IO_L46P_YY (io), E25 IO_L49P_Y (io), E26 IO (io), F20 IO_L46N_YY (io), F22 IO_DIN_D0_L45N_YY (io), F23 IO_L50P_YY (io), F24 IO_VREF_L48P_Y (io), F26 IO (io), G21 IO_L47P_Y (io), G22 IO_L47N_Y (io), G23 IO_L50N_YY (io), G24 IO_L52P_YY (io), G25 IO_L53N_Y (io), G26 IO_VREF_L54P_Y (io), H20 IO_L48N_Y (io), H21 IO_L49N_Y (io), H22 IO_L52N_YY (io), H23 IO_VREF_L51P_YY (io), H24 IO_L55P_YY (io), H25 IO_L58P_YY (io), H26 IO (io), J19 VCCO (power), J20 IO_L51N_YY (io), J21 IO_L53P_Y (io), J22 IO_L54N_Y (io), J23 IO_L55N_YY (io), J24 IO_L56P_YY (io), J26 IO_L59N_Y (io), K19 VCCO (power), K20 IO_VREF_L56N_YY (io), K21 IO_L57N_YY (io), K22 IO_D2_L57P_YY (io), K23 IO_L58N_YY (io), K24 IO_D1 (io), K25 IO_L60P_Y (io), K26 IO (io), L19 VCCO (power), L20 IO_L59P_Y (io), L21 IO_L61P_Y (io), L22 IO_L60N_Y (io), L23 IO_L61N_Y (io), L24 IO_L62N_Y (io), L26 IO_L64P_YY (io), M18 VCCO (power), M19 VCCO (power), M20 IO_L62P_Y (io), M21 IO_L64N_YY (io), M22 IO_D3_L63N_YY (io), M23 IO_VREF_L63P_YY (io), M24 IO_L65N_Y (io), M25 IO (io), M26 IO_VREF_L66P_Y (io), N18 VCCO (power), N19 IO_L65P_Y (io), N20 IO_L66N_Y (io), N21 IO_L67N_YY (io), N22 IO_L68N_YY (io), N23 IO_L68P_YY (io), N24 IO_L67P_YY (io), N26 IO (io), P18 VCCO (power), P19 IO_L71P_Y (io), P20 IO_L71N_Y (io), P21 IO_L69P_YY (io), P22 IO_L70P_Y (io), P23 IO_L69N_YY (io), P24 IO (io), P26 IO (io), R18 VCCO (power), R19 VCCO (power), R20 IO_L74N_Y (io), R21 IO_L72P_YY (io), R22 IO_L72N_YY (io), R23 IO_VREF_L73N_YY (io), R24 IO_D4_L73P_YY (io), R25 IO_VREF_L70N_Y (io), R26 IO (io), T19 VCCO (power), T20 IO_L79P_YY (io), T21 IO_L77P_Y (io), T22 IO_L75P_Y (io), T23 IO_L76P_Y (io), T24 IO_L74P_Y (io), T26 IO (io), U19 VCCO (power), U20 IO_L77N_Y (io), U21 IO_VREF_L80N_YY (io), U22 IO_L78P_YY (io), U23 IO_D5_L79N_YY (io), U24 IO_L75N_Y (io), U25 IO_L76N_Y (io), U26 IO (io), V19 VCCO (power), V20 IO_L84P_YY (io), V21 IO_L83N_Y (io), V22 IO_L82P_Y (io), V23 IO_L81P_YY (io), V24 IO_D6_L80P_YY (io), V26 IO_L78N_YY (io), W20 IO_L90P_YY (io), W21 IO_L87N_Y (io), W22 IO_VREF_L88N_Y (io), W23 IO_VREF_L85N_YY (io), W24 IO_L81N_YY (io), W25 IO (io), W26 IO_VREF_L82N_Y (io), Y21 IO_INIT_L91N_YY (io), Y22 IO_L88P_Y (io), Y23 IO_L86N_Y (io), Y24 IO_L85P_YY (io), Y25 IO_L83P_Y (io), Y26 IO (io)
part C pins: AA7 IO_L135N_YY (io), AA8 IO_L133N_YY (io), AA9 IO_L130P_YY (io), AA10 IO_VREF_L126N_YY (io), AA11 IO_L123N_YY (io), AA12 IO_L118P_YY (io), AA13 IO_L116P_Y (io), AA14 GCK0 (in), AA15 IO_L111N_YY (io), AA16 IO_L107N_YY (io), AA17 IO_L104N_YY (io), AA18 IO_L99N_YY (io), AA19 IO_L97N (io), AA20 IO_L93N_Y (io), AB8 IO_VREF_L134N_YY (io), AB9 IO_L129N_Y (io), AB10 IO_L125P_YY (io), AB11 IO_L121P (io), AB12 IO_VREF_L119N_YY (io), AB13 GCK1 (in), AB14 IO_L114N (io), AB15 IO_L112N_Y (io), AB16 IO_L108N (io), AB17 IO_L105N_Y (io), AB18 IO_L101N_Y (io), AB19 IO_L98N_YY (io), AB20 IO_L95N_YY (io), AC5 IO_L136N_Y (io), AC6 IO_L134P_YY (io), AC7 IO_VREF_L131N_YY (io), AC8 IO_L131P_YY (io), AC9 IO_L128P_Y (io), AC10 IO_L123P_YY (io), AC11 IO_L122P_YY (io), AC12 IO_L119P_YY (io), AC13 IO_L117P_Y (io), AC14 IO_LVDS_DLL_L115P (io), AC15 IO_VREF_L110P_YY (io), AC16 IO_L109P_YY (io), AC17 IO_L105P_Y (io), AC18 IO (io), AC19 IO_L100P_Y (io), AC20 IO_L99P_YY (io), AC21 IO_L904N_YY (io), AC22 IO_L92P_YY (io), AD5 IO_L135P_YY (io), AD6 IO_L132P_YY (io), AD7 IO (io), AD8 IO_L126P_YY (io), AD9 IO_L124N_Y (io), AD10 IO_L121N (io), AD11 IO_L120P_YY (io), AD12 IO_L118N_YY (io), AD13 IO (io), AD14 IO_L114P (io), AD15 IO_L111P_YY (io), AD16 IO_L109N_YY (io), AD17 IO_L108P (io), AD18 IO_VREF_L103N (io), AD19 IO_L102P (io), AD20 IO_L100N_Y (io), AD21 IO_VREF_L98P_YY (io), AD22 IO_VREF_L95P_YY (io), AD23 IO_L93P_Y (io), AD26 IO_L92N_YY (io), AE4 IO (io), AE5 IO_L133P_YY (io), AE7 IO (io), AE8 IO_L127P_YY (io), AE10 IO_L122N_YY (io), AE12 IO (io), AE15 IO (io), AE17 IO_L106N_YY (io), AE19 IO_L103P (io), AE20 IO (io), AE22 IO_L96P (io), AE23 IO (io), AF3 IO (io), AF4 IO_L136P_Y (io), AF5 IO (io), AF6 IO_L130N_YY (io), AF7 IO_L129P_Y (io), AF8 IO_VREF_L128N_Y (io), AF9 IO_L125N_YY (io), AF10 IO (io), AF11 IO (io), AF12 IO_VREF_L116N_Y (io), AF13 IO_LVDS_DLL_L115N (io), AF14 IO (io), AF15 IO_VREF_L113P_Y (io), AF16 IO (io), AF17 IO_L107P_YY (io), AF18 IO (io), AF19 IO_L104P_YY (io), AF20 IO_VREF_L101P_Y (io), AF21 IO (io), AF22 IO_L97P (io), AF23 IO (io), V12 VCCO (power), V13 VCCO (power), V14 VCCO (power), V15 VCCO (power), W9 VCCO (power), W10 VCCO (power), W11 VCCO (power), W12 VCCO (power), W13 IO_L117N_Y (io), W14 IO_L112P_Y (io), W15 VCCO (power), W16 VCCO (power), W17 VCCO (power), W18 VCCO (power), Y9 IO_L132N_YY (io), Y10 IO_L127N_YY (io), Y11 IO_L124P_Y (io), Y12 IO_L120N_YY (io), Y13 IO (io), Y14 IO_L113N_Y (io), Y15 IO_L110N_YY (io), Y16 IO_L106P_YY (io), Y17 IO_L102N (io), Y18 IO_L96N (io), Y19 IO_L94P_YY (io)
part D pins: AA1 IO_L144N_YY (io), AA3 IO (io), AA4 IO_L139P_Y (io), AA5 IO_L137N_YY (io), AB1 IO_L142N_YY (io), AB2 IO_L141N_Y (io), AB3 IO_VREF_L140N_Y (io), AB4 IO_L138P_YY (io), AC1 IO (io), AC2 IO_L138N_YY (io), AC3 IO_L137P_YY (io), D1 IO (io), D2 IO (io), D3 IO (io), E1 IO (io), E2 IO_L179N_Y (io), E3 IO_L182N_YY (io), E4 IO_L182P_YY (io), F1 IO_L176N_YY (io), F3 IO_L178N_Y (io), F4 IO_VREF_L180P_Y (io), G1 IO (io), G2 IO_L175N_Y (io), G3 IO_L173P_YY (io), G4 IO_VREF_L177P_YY (io), G5 IO_L180N_Y (io), G6 IO_L181P_Y (io), H1 IO_VREF_L174P_Y (io), H2 IO (io), H3 IO_L172N_YY (io), H4 IO_L177N_YY (io), H5 IO_L178P_Y (io), H6 IO_L179P_Y (io), H7 IO_L181N_Y (io), J1 IO (io), J3 IO_L170P_YY (io), J4 IO_L171P_YY (io), J5 IO_L174N_Y (io), J6 IO_L175P_Y (io), J7 IO_L176N_YY (io), J8 VCCO (power), K1 IO_L168P_Y (io), K2 IO_L167P_Y (io), K3 IO_L169N_Y (io), K4 IO_L171N_YY (io), K5 IO_L170N_YY (io), K6 IO_VREF_L172P_YY (io), K7 IO_L173N_YY (io), K8 VCCO (power), L1 IO (io), L3 IO_L166N_Y (io), L4 IO_L168N_Y (io), L5 IO_L169P_Y (io), L6 IO_L167N_Y (io), L7 IO_L166P_Y (io), L8 VCCO (power), M1 IO (io), M2 IO_VREF_L162P_Y (io), M3 IO_L164P_YY (io), M4 IO_L165N_YY (io), M5 IO_VREF_L165P_YY (io), M6 IO_L164N_YY (io), M7 IO_L163P_Y (io), M8 VCCO (power), M9 VCCO (power), N1 IO (io), N3 IO_L161P_YY (io), N4 IO_L162N_Y (io), N5 IO_L160N_YY (io), N6 IO_L161N_YY (io), N7 IO_L163N_Y (io), N8 IO_L160P_YY (io), N9 VCCO (power), P1 IO (io), P3 IO (io), P4 IO_L159P_YY (io), P5 IO_L159N_YY (io), P6 IO_L158P_Y (io), P7 IO_L157P_Y (io), P8 IO_L157N_Y (io), P9 VCCO (power), R1 IO_VREF_L158N_Y (io), R2 IO (io), R3 IO_L156N_YY (io), R4 IO_VREF_L155N_YY (io), R5 IO_L156P_YY (io), R6 IO_L155P_YY (io), R7 IO_L154N_Y (io), R8 VCCO (power), R9 VCCO (power), T1 IO (io), T3 IO_L154P_Y (io), T4 IO_L153P_Y (io), T5 IO_L149P_YY (io), T6 IO_L152P_Y (io), T7 IO_L151N_Y (io), T8 VCCO (power), U1 IO_L153N_Y (io), U2 IO_L152N_Y (io), U3 IO_L151P_Y (io), U4 IO_L150P_YY (io), U5 IO_L150N_YY (io), U6 IO_VREF_L148P_YY (io), U7 IO_L146P_Y (io), U8 VCCO (power), V1 IO (io), V3 IO_L149N_YY (io), V4 IO_L147P_YY (io), V5 IO_VREF_L143N_YY (io), V6 IO_L144P_YY (io), V7 IO_L141P_Y (io), V8 VCCO (power), W1 IO_L147N_YY (io), W2 IO_L148N_YY (io), W3 IO (io), W4 IO_L145N_Y (io), W5 IO_L143P_YY (io), W6 IO_L139N_Y (io), Y1 IO_VREF_L146N_Y (io), Y2 IO (io), Y3 IO_L145P_Y (io), Y4 IO_L142P_YY (io), Y5 IO_L140P_Y (io), Y6 IO (io)
part E pins: A1 GND (power), A26 GND (power), AA22 PROGRAM (in), AB5 GND (power), AB6 M2 (in), AB7 DXN, AB21 DONE (io), AB22 GND (power), AC4 GND (power), AC23 GND (power), AD3 GND (power), AD4 M0 (in), AD24 GND (power), AE2 GND (power), AE9 GND (power), AE13 GND (power), AE18 GND (power), AE25 GND (power), AF1 GND (power), AF26 GND (power), B2 GND (power), B9 GND (power), B14 GND (power), B18 GND (power), B25 GND (power), C3 GND (power), C23 TDO (out), C24 GND (power), D4 GND (power), D22 TDI (in), D23 GND (power), D24 CCLK (io), E5 GND (power), E6 TCK (in), E22 GND (power), F5 TMS (in), G7 VCCINT (power), G20 VCCINT (power), H8 VCCINT (power), H19 VCCINT (power), J2 GND (power), J9 VCCINT (power), J10 VCCINT (power), J11 VCCINT (power), J16 VCCINT (power), J17 VCCINT (power), J18 VCCINT (power), J25 GND (power), K9 VCCINT (power), K10 GND (power), K11 GND (power), K12 GND (power), K13 GND (power), K14 GND (power), K15 GND (power), K16 GND (power), K17 GND (power), K18 VCCINT (power), L9 VCCINT (power), L10 GND (power), L11 GND (power), L12 GND (power), L13 GND (power), L14 GND (power), L15 GND (power), L16 GND (power), L17 GND (power), L18 VCCINT (power), M10 GND (power), M11 GND (power), M12 GND (power), M13 GND (power), M14 GND (power), M15 GND (power), M16 GND (power), M17 GND (power), N2 GND (power), N10 GND (power), N11 GND (power), N12 GND (power), N13 GND (power), N14 GND (power), N15 GND (power), N16 GND (power), N17 GND (power), P10 GND (power), P11 GND (power), P12 GND (power), P13 GND (power), P14 GND (power), P15 GND (power), P16 GND (power), P17 GND (power), P25 GND (power), R10 GND (power), R11 GND (power), R12 GND (power), R13 GND (power), R14 GND (power), R15 GND (power), R16 GND (power), R17 GND (power), T9 VCCINT (power), T10 GND (power), T11 GND (power), T12 GND (power), T13 GND (power), T14 GND (power), T15 GND (power), T16 GND (power), T17 GND (power), T18 VCCINT (power), U9 VCCINT (power), U10 GND (power), U11 GND (power), U12 GND (power), U13 GND (power), U14 GND (power), U15 GND (power), U16 GND (power), U17 GND (power), U18 VCCINT (power), V2 GND (power), V9 VCCINT (power), V10 VCCINT (power), V11 VCCINT (power), V16 VCCINT (power), V17 VCCINT (power), V18 VCCINT (power), V25 GND (power), W7 M1 (in), W8 VCCINT (power), W19 VCCINT (power), Y7 VCCINT (power), Y8 DXP, Y20 VCCINT (power)
part F pins: A2 NC, A3 NC, A15 NC, A25 NC, AA2 NC, AA6 NC, AA21 NC, AA25 NC, AD1 NC, AD2 NC, AD25 NC, AE1 NC, AE3 NC, AE6 NC, AE11 NC, AE14 NC, AE16 NC, AE21 NC, AE24 NC, AE26 NC, AF2 NC, AF24 NC, AF25 NC, B1 NC, B6 NC, B11 NC, B16 NC, B21 NC, B24 NC, B26 NC, C1 NC, C2 NC, C25 NC, C26 NC, F2 NC, F6 NC, F21 NC, F25 NC, L2 NC, L25 NC, N25 NC, P2 NC, T2 NC, T25 NC
part A text: BANK 0; BANK 1
part B text: BANK 2; BANK 3
part C text: BANK 4; BANK 5
part D text: BANK 6; BANK 7

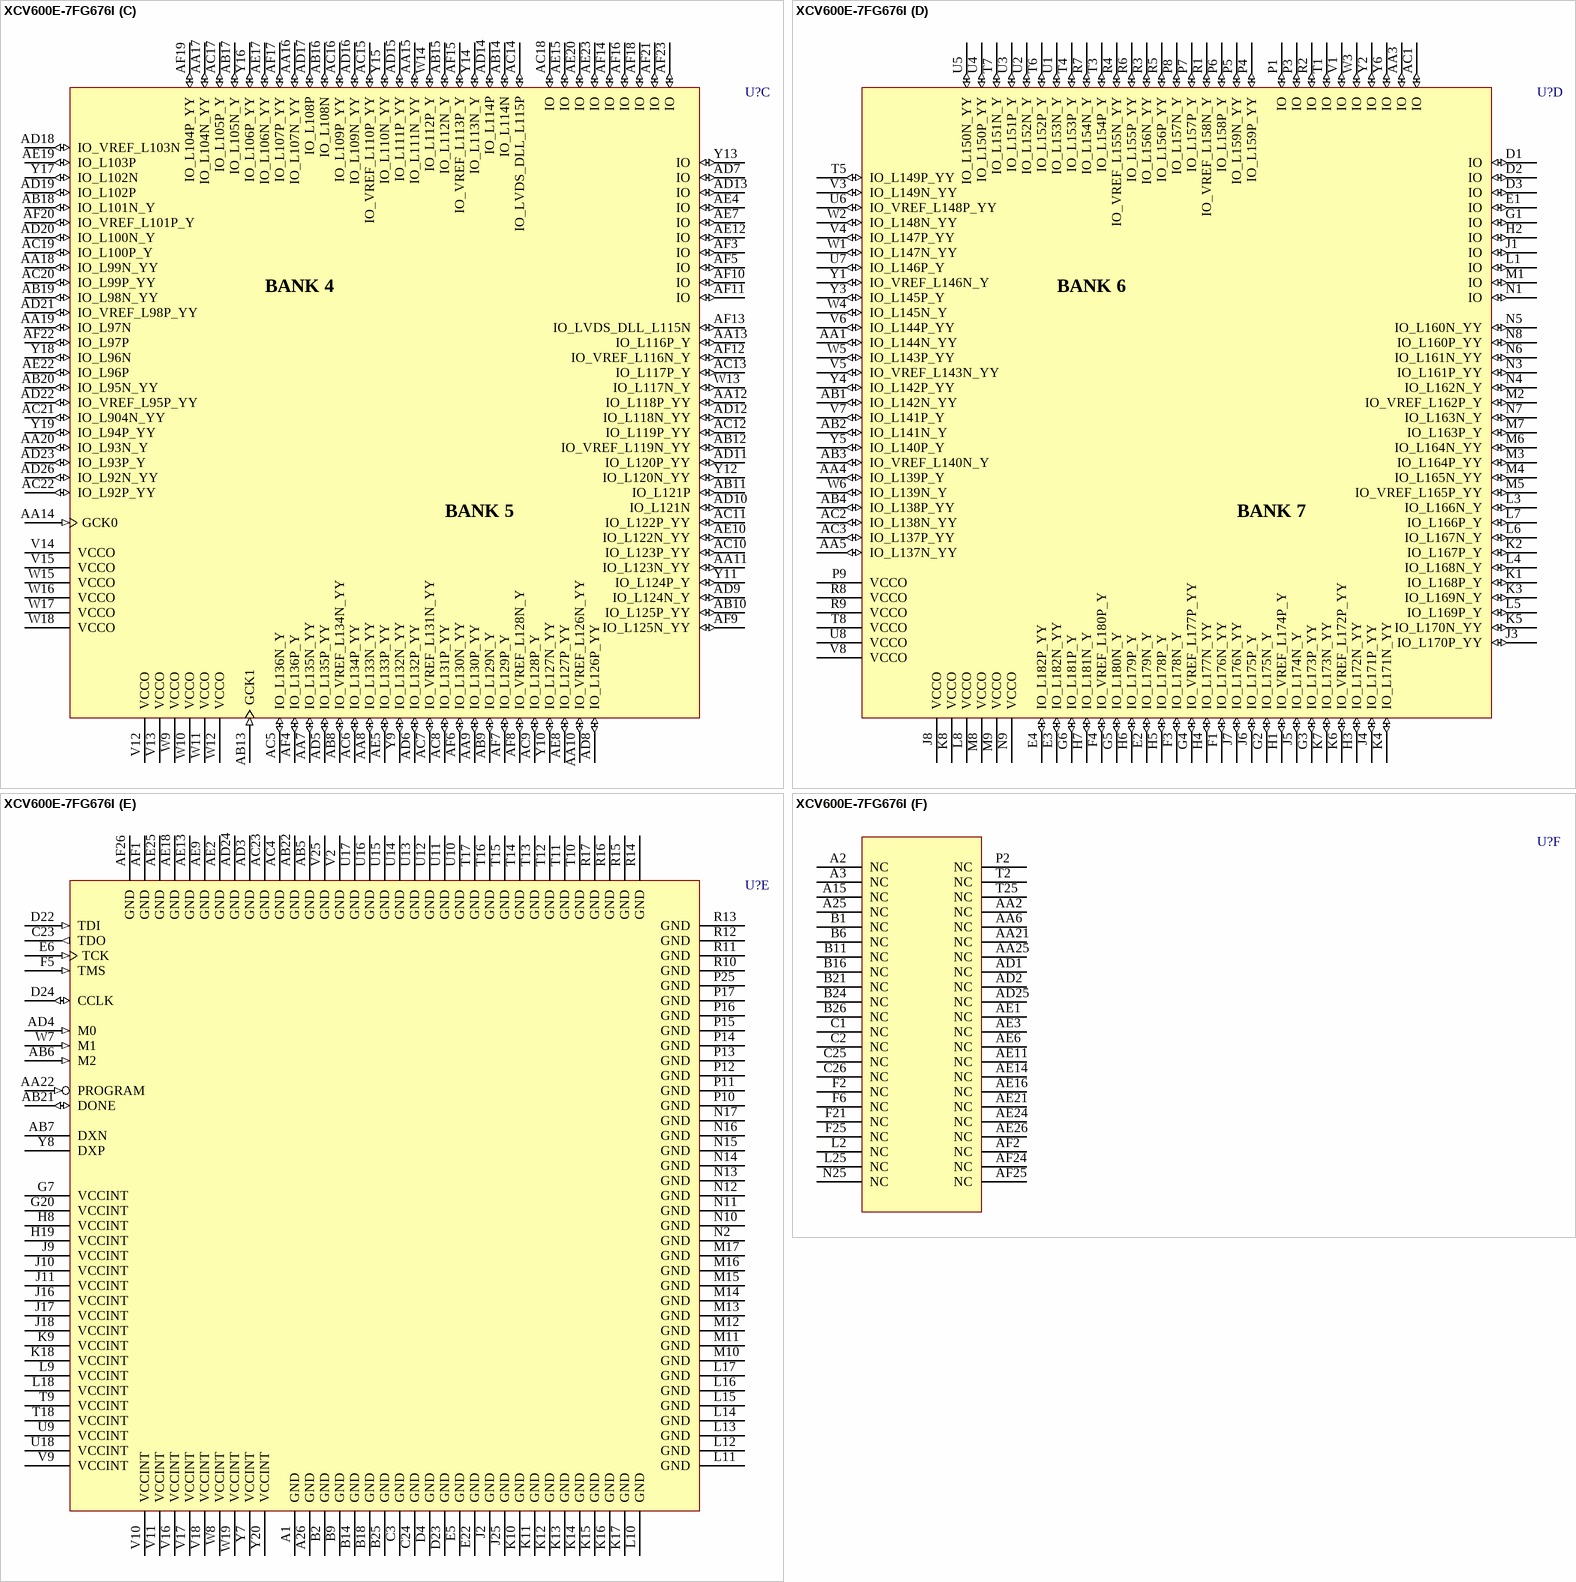
[diagram p229: symbol XCV600E-7FG676I]